# EAGLE library part CORTEX_DEBUG (library headers)
CONN HEADER 10POS DL UNSHRD SMD tested: YES (etherbotix)
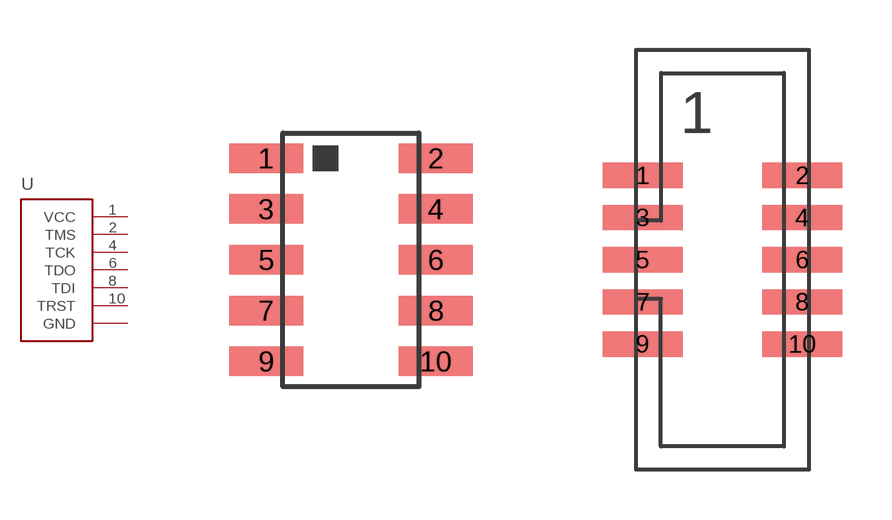
[diagram p5: symbol with the pads of 20021121-00010C4LF; footprints 20021121-00010C4LF, 3220-10-0300-00]

Designator prefix -

## CORTEX_DEBUG  [20021121-00010C4LF]
1  VCC
2  TMS
3  GND
4  TCK
5  GND
6  TDO
8  TDI
9  GND
10  TRST

## CORTEX_DEBUG-SHROUDED  [3220-10-0300-00]
Pads as for 20021121-00010C4LF

## Footprint 20021121-00010C4LF (pad centres in mm)
smd 1.854 x 0.737: 1 -2.121,2.54; 2 2.121,2.54; 3 -2.121,1.27; 4 2.121,1.27; 5 -2.121,0; 6 2.121,0; 7 -2.121,-1.27; 8 2.121,-1.27; 9 -2.121,-2.54; 10 2.121,-2.54

## Footprint 3220-10-0300-00 (pad centres in mm)
This does not follow the CNC Tech datasheet exactly. The pads should be another 0.3mm farther outward in order to match the datasheet -- but if we did that, this footprint could not be populated with the unshrouded header.
smd 2.4 x 0.76: 1 -2.4,2.54; 2 2.4,2.54; 3 -2.4,1.27; 4 2.4,1.27; 5 -2.4,0; 6 2.4,0; 7 -2.4,-1.27; 8 2.4,-1.27; 9 -2.4,-2.54; 10 2.4,-2.54